# Altium integrated library Linear Technology PMIC-Switching Reg LTC1174-LTC3901.IntLib: 2647 symbols (part 55 of 310)
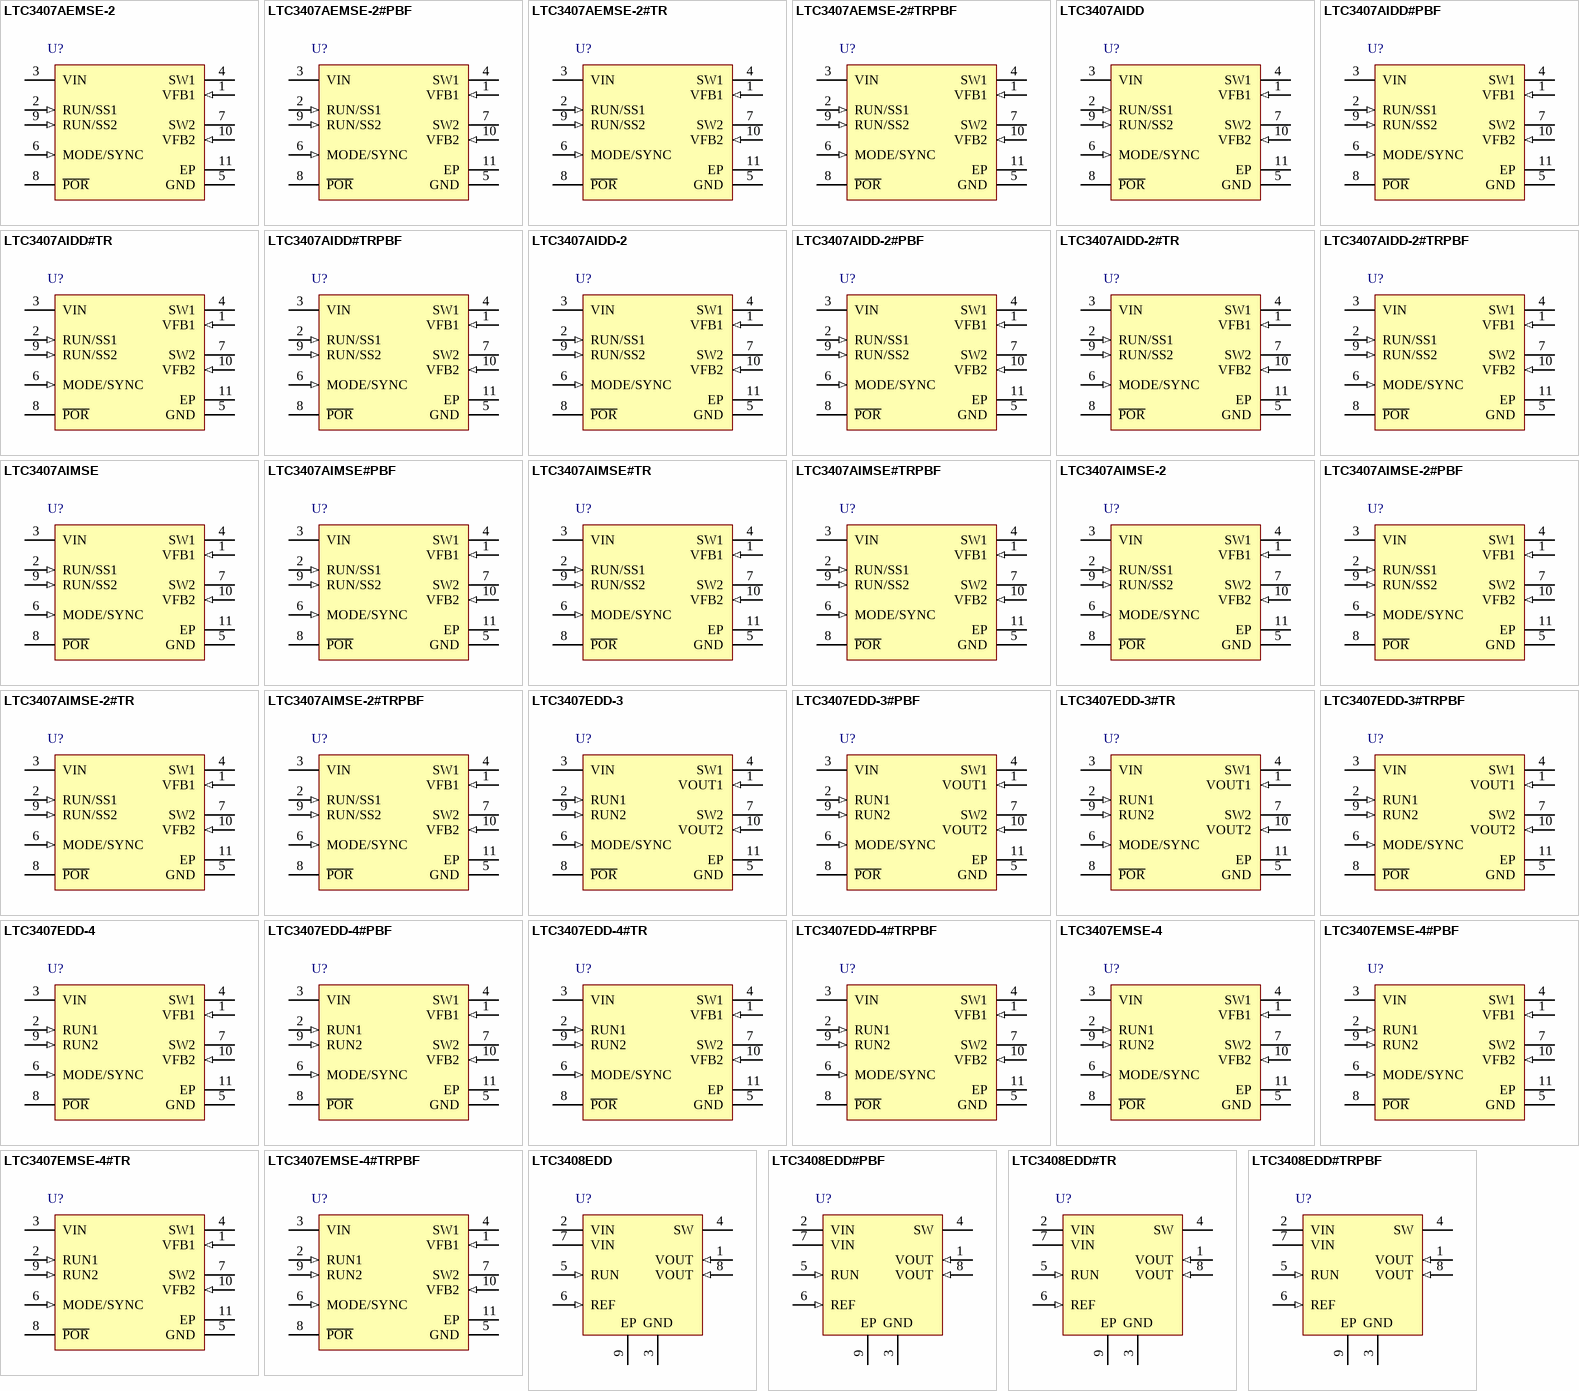
[diagram p148: symbols LTC3407AEMSE-2 to LTC3408EDD#TRPBF]

## LTC3407AIMSE-2
designator U?
Dual Synchronous 800 mA, 2.25 MHz Step-Down DC/DC Regulator, 10-pin SOP (MSE-10-EDP), -40 to 125 degC; Manufacturer: Linear Technology; PartNumber: LTC3407AIMSE-2; Number of Outputs: 2; PackageReference: MSE-10; PackageDescription: 10-Pin Plastic MSOP, Exposed Die Pad, Body 3 x 3 mm, Pitch 0.5 mm; Supplier 1: Newark; Supplier Part Number 1: 56M7592; RoHS: FALSE
footprint LT-MSE-10-EDP-2060x1830TP_N (SOP, 10-Leads, Body 3.1x3.1mm, Pitch 0.5mm, Thermal Pad 2.17x1.94mm, IPC Medium Density)
footprint LT-MSE-10-EDP-2060x1830TP_L (SOP, 10-Leads, Body 3.1x3.1mm, Pitch 0.5mm, Thermal Pad 2.17x1.94mm, IPC High Density)
footprint LT-MSE-10-EDP-2060x1830TP_M (SOP, 10-Leads, Body 3.1x3.1mm, Pitch 0.5mm, Thermal Pad 2.17x1.94mm, IPC Low Density)
pins: 1 VFB1 (in) "Output Feedback. Receives the feedback voltage from the external resistive divider across the output. Nominal voltage for this pin is 0.6V.", 2 RUN/SS1 (in) "Regulator 1 Enable and Soft-Start Input. Forcing this pin to VIN enables regulator 1, while forcing it to GND causes regulator 1 to shut down. Connect external RC-network with desired time-constant to enable softstart (See Datasheet)", 3 VIN (power) "Main Power Supply. Must be closely decoupled to GND.", 4 SW1 (power) "Regulator 1 Switch Node Connection to the Inductor. This pin swings from VIN to GND", 5 GND (power) "Main Ground. Connect to the (-) terminal of COUT, and (-) terminal of CIN.", 6 MODE/SYNC (in) "Combination Mode Selection and Oscillator Synchronization. This pin controls the operation of the device. When tied to VIN or GND, Burst Mode operation or pulse skipping mode is selected, respectively. Do not float this pin. (See Datasheet)", 7 SW2 (power) "Regulator 2 Switch Node Connection to the Inductor. This pin swings from VIN to GND.", 8 ~{POR} (oc) "Power-On Reset. This common-drain logic output is pulled to GND when the output voltage is not within +/-8.5% of regulation and goes high after 2^16 clock cycles when both channels are within regulation.", 9 RUN/SS2 (in) "Regulator 2 Enable and Soft-Start Input. Forcing this pin to VIN enables regulator 2, while forcing it to GND causes regulator 2 to shut down. Connect external RC-Network with desired time-constant to enable softstart (See Datasheet)", 10 VFB2 (in) "Output Feedback. Receives the feedback voltage from the external resistive divider across the output. Nominal voltage for this pin is 0.6V.", 11 EP (power) "Power Ground. Connect to the (-) terminal of COUT, and (-) terminal of CIN. Must be soldered to electrical ground on PCB."

## LTC3407AIMSE-2#PBF
designator U?
Dual Synchronous 800 mA, 2.25 MHz Step-Down DC/DC Regulator, 10-pin SOP (MSE-10-EDP), -40 to 125 degC, Pb-Free; Manufacturer: Linear Technology; PartNumber: LTC3407AIMSE-2#PBF; Number of Outputs: 2; PackageReference: MSE-10; PackageDescription: 10-Pin Plastic MSOP, Exposed Die Pad, Body 3 x 3 mm, Pitch 0.5 mm; Supplier 1: Digi-Key; Supplier Part Number 1: LTC3407AIMSE-2#PBF-ND; RoHS: TRUE
footprint LT-MSE-10-EDP-2060x1830TP_N (SOP, 10-Leads, Body 3.1x3.1mm, Pitch 0.5mm, Thermal Pad 2.17x1.94mm, IPC Medium Density)
footprint LT-MSE-10-EDP-2060x1830TP_L (SOP, 10-Leads, Body 3.1x3.1mm, Pitch 0.5mm, Thermal Pad 2.17x1.94mm, IPC High Density)
footprint LT-MSE-10-EDP-2060x1830TP_M (SOP, 10-Leads, Body 3.1x3.1mm, Pitch 0.5mm, Thermal Pad 2.17x1.94mm, IPC Low Density)
pins: 1 VFB1 (in) "Output Feedback. Receives the feedback voltage from the external resistive divider across the output. Nominal voltage for this pin is 0.6V.", 2 RUN/SS1 (in) "Regulator 1 Enable and Soft-Start Input. Forcing this pin to VIN enables regulator 1, while forcing it to GND causes regulator 1 to shut down. Connect external RC-network with desired time-constant to enable softstart (See Datasheet)", 3 VIN (power) "Main Power Supply. Must be closely decoupled to GND.", 4 SW1 (power) "Regulator 1 Switch Node Connection to the Inductor. This pin swings from VIN to GND", 5 GND (power) "Main Ground. Connect to the (-) terminal of COUT, and (-) terminal of CIN.", 6 MODE/SYNC (in) "Combination Mode Selection and Oscillator Synchronization. This pin controls the operation of the device. When tied to VIN or GND, Burst Mode operation or pulse skipping mode is selected, respectively. Do not float this pin. (See Datasheet)", 7 SW2 (power) "Regulator 2 Switch Node Connection to the Inductor. This pin swings from VIN to GND.", 8 ~{POR} (oc) "Power-On Reset. This common-drain logic output is pulled to GND when the output voltage is not within +/-8.5% of regulation and goes high after 2^16 clock cycles when both channels are within regulation.", 9 RUN/SS2 (in) "Regulator 2 Enable and Soft-Start Input. Forcing this pin to VIN enables regulator 2, while forcing it to GND causes regulator 2 to shut down. Connect external RC-Network with desired time-constant to enable softstart (See Datasheet)", 10 VFB2 (in) "Output Feedback. Receives the feedback voltage from the external resistive divider across the output. Nominal voltage for this pin is 0.6V.", 11 EP (power) "Power Ground. Connect to the (-) terminal of COUT, and (-) terminal of CIN. Must be soldered to electrical ground on PCB."

## LTC3407AIMSE-2#TR
designator U?
Dual Synchronous 800 mA, 2.25 MHz Step-Down DC/DC Regulator, 10-pin SOP (MSE-10-EDP), -40 to 125 degC, Tape and Reel; Manufacturer: Linear Technology; PartNumber: LTC3407AIMSE-2#TR; Number of Outputs: 2; PackageReference: MSE-10; PackageDescription: 10-Pin Plastic MSOP, Exposed Die Pad, Body 3 x 3 mm, Pitch 0.5 mm; RoHS: FALSE
footprint LT-MSE-10-EDP-2060x1830TP_N (SOP, 10-Leads, Body 3.1x3.1mm, Pitch 0.5mm, Thermal Pad 2.17x1.94mm, IPC Medium Density)
footprint LT-MSE-10-EDP-2060x1830TP_L (SOP, 10-Leads, Body 3.1x3.1mm, Pitch 0.5mm, Thermal Pad 2.17x1.94mm, IPC High Density)
footprint LT-MSE-10-EDP-2060x1830TP_M (SOP, 10-Leads, Body 3.1x3.1mm, Pitch 0.5mm, Thermal Pad 2.17x1.94mm, IPC Low Density)
pins: 1 VFB1 (in) "Output Feedback. Receives the feedback voltage from the external resistive divider across the output. Nominal voltage for this pin is 0.6V.", 2 RUN/SS1 (in) "Regulator 1 Enable and Soft-Start Input. Forcing this pin to VIN enables regulator 1, while forcing it to GND causes regulator 1 to shut down. Connect external RC-network with desired time-constant to enable softstart (See Datasheet)", 3 VIN (power) "Main Power Supply. Must be closely decoupled to GND.", 4 SW1 (power) "Regulator 1 Switch Node Connection to the Inductor. This pin swings from VIN to GND", 5 GND (power) "Main Ground. Connect to the (-) terminal of COUT, and (-) terminal of CIN.", 6 MODE/SYNC (in) "Combination Mode Selection and Oscillator Synchronization. This pin controls the operation of the device. When tied to VIN or GND, Burst Mode operation or pulse skipping mode is selected, respectively. Do not float this pin. (See Datasheet)", 7 SW2 (power) "Regulator 2 Switch Node Connection to the Inductor. This pin swings from VIN to GND.", 8 ~{POR} (oc) "Power-On Reset. This common-drain logic output is pulled to GND when the output voltage is not within +/-8.5% of regulation and goes high after 2^16 clock cycles when both channels are within regulation.", 9 RUN/SS2 (in) "Regulator 2 Enable and Soft-Start Input. Forcing this pin to VIN enables regulator 2, while forcing it to GND causes regulator 2 to shut down. Connect external RC-Network with desired time-constant to enable softstart (See Datasheet)", 10 VFB2 (in) "Output Feedback. Receives the feedback voltage from the external resistive divider across the output. Nominal voltage for this pin is 0.6V.", 11 EP (power) "Power Ground. Connect to the (-) terminal of COUT, and (-) terminal of CIN. Must be soldered to electrical ground on PCB."

## LTC3407AIMSE-2#TRPBF
designator U?
Dual Synchronous 800 mA, 2.25 MHz Step-Down DC/DC Regulator, 10-pin SOP (MSE-10-EDP), -40 to 125 degC, Pb-Free, Tape and Reel; Manufacturer: Linear Technology; PartNumber: LTC3407AIMSE-2#TRPBF; Number of Outputs: 2; PackageReference: MSE-10; PackageDescription: 10-Pin Plastic MSOP, Exposed Die Pad, Body 3 x 3 mm, Pitch 0.5 mm; Supplier 1: Digi-Key; Supplier Part Number 1: LTC3407AIMSE-2#TRPBF-ND; RoHS: TRUE
footprint LT-MSE-10-EDP-2060x1830TP_N (SOP, 10-Leads, Body 3.1x3.1mm, Pitch 0.5mm, Thermal Pad 2.17x1.94mm, IPC Medium Density)
footprint LT-MSE-10-EDP-2060x1830TP_L (SOP, 10-Leads, Body 3.1x3.1mm, Pitch 0.5mm, Thermal Pad 2.17x1.94mm, IPC High Density)
footprint LT-MSE-10-EDP-2060x1830TP_M (SOP, 10-Leads, Body 3.1x3.1mm, Pitch 0.5mm, Thermal Pad 2.17x1.94mm, IPC Low Density)
pins: 1 VFB1 (in) "Output Feedback. Receives the feedback voltage from the external resistive divider across the output. Nominal voltage for this pin is 0.6V.", 2 RUN/SS1 (in) "Regulator 1 Enable and Soft-Start Input. Forcing this pin to VIN enables regulator 1, while forcing it to GND causes regulator 1 to shut down. Connect external RC-network with desired time-constant to enable softstart (See Datasheet)", 3 VIN (power) "Main Power Supply. Must be closely decoupled to GND.", 4 SW1 (power) "Regulator 1 Switch Node Connection to the Inductor. This pin swings from VIN to GND", 5 GND (power) "Main Ground. Connect to the (-) terminal of COUT, and (-) terminal of CIN.", 6 MODE/SYNC (in) "Combination Mode Selection and Oscillator Synchronization. This pin controls the operation of the device. When tied to VIN or GND, Burst Mode operation or pulse skipping mode is selected, respectively. Do not float this pin. (See Datasheet)", 7 SW2 (power) "Regulator 2 Switch Node Connection to the Inductor. This pin swings from VIN to GND.", 8 ~{POR} (oc) "Power-On Reset. This common-drain logic output is pulled to GND when the output voltage is not within +/-8.5% of regulation and goes high after 2^16 clock cycles when both channels are within regulation.", 9 RUN/SS2 (in) "Regulator 2 Enable and Soft-Start Input. Forcing this pin to VIN enables regulator 2, while forcing it to GND causes regulator 2 to shut down. Connect external RC-Network with desired time-constant to enable softstart (See Datasheet)", 10 VFB2 (in) "Output Feedback. Receives the feedback voltage from the external resistive divider across the output. Nominal voltage for this pin is 0.6V.", 11 EP (power) "Power Ground. Connect to the (-) terminal of COUT, and (-) terminal of CIN. Must be soldered to electrical ground on PCB."

## LTC3407EDD-3
designator U?
Dual Synchronous 800 mA, 2.25 MHz Step-Down DC/DC Regulator, 10-pin SON (DD-10), -40 to 85 degC; Manufacturer: Linear Technology; PartNumber: LTC3407EDD-3; Number of Outputs: 2; PackageReference: DD-10; PackageDescription: 10-Pin Plastic DFN, Body 3 x 3 mm, Pitch 0.5 mm; RoHS: FALSE; Code_JEDEC: MO-229
footprint LT-DD-10_V (SON, 10-Leads, Body 3x3mm, Pitch 0.5mm, Thermal Pad 2.38x1.65mm)
pins: 1 VOUT1 (in) "Output Voltage Feedback Pin for Channel 1. An internal resistive divider divides the output voltage down for comparison to the internal reference voltage.", 2 RUN1 (in) "Regulator 1 Enable. Forcing this pin to VIN enables regulator 1, while forcing it to GND causes regulator 1 to shut down. Do not float this pin.", 3 VIN (power) "Main Power Supply. Must be closely decoupled to GND.", 4 SW1 (power) "Regulator 1 Switch Node Connection to the Inductor. This pin swings from VIN to GND", 5 GND (power) "Ground. This pin is not connected internally. Connect to PCB ground for shielding", 6 MODE/SYNC (in) "Combination Mode Selection and Oscillator Synchronization. This pin controls the operation of the device. When tied to VIN or GND, Burst Mode operation or pulse-skipping mode is selected, respectively. The oscillation (See Datasheet)", 7 SW2 (power) "Regulator 2 Switch Node Connection to the Inductor. This pin swings from VIN to GND.", 8 ~{POR} (oc) "Power-On Reset . This common-drain logic output is pulled to GND when the output voltage falls below -8.5% of regulation and goes high after 117ms when both channels are within regulation.", 9 RUN2 (in) "Regulator 2 Enable. Forcing this pin to VIN enables regulator 2, while forcing it to GND causes regulator 2 to shut down. Do not float this pin", 10 VOUT2 (in) "Output Voltage Feedback Pin for Channel 2. An internal resistive divider divides the output voltage down for comparison to the internal reference voltage.", 11 EP (power) "Power Ground. Connect to the (-) terminal of COUT, and (-) terminal of CIN. Must be connected to electrical ground on PCB."

## LTC3407EDD-3#PBF
designator U?
Dual Synchronous 800 mA, 2.25 MHz Step-Down DC/DC Regulator, 10-pin SON (DD-10), -40 to 85 degC, Pb-Free; Manufacturer: Linear Technology; PartNumber: LTC3407EDD-3#PBF; Number of Outputs: 2; PackageReference: DD-10; PackageDescription: 10-Pin Plastic DFN, Body 3 x 3 mm, Pitch 0.5 mm; Supplier 1: Digi-Key; Supplier Part Number 1: LTC3407EDD-3#PBF-ND; RoHS: TRUE; Code_JEDEC: MO-229
footprint LT-DD-10_V (SON, 10-Leads, Body 3x3mm, Pitch 0.5mm, Thermal Pad 2.38x1.65mm)
pins: 1 VOUT1 (in) "Output Voltage Feedback Pin for Channel 1. An internal resistive divider divides the output voltage down for comparison to the internal reference voltage.", 2 RUN1 (in) "Regulator 1 Enable. Forcing this pin to VIN enables regulator 1, while forcing it to GND causes regulator 1 to shut down. Do not float this pin.", 3 VIN (power) "Main Power Supply. Must be closely decoupled to GND.", 4 SW1 (power) "Regulator 1 Switch Node Connection to the Inductor. This pin swings from VIN to GND", 5 GND (power) "Ground. This pin is not connected internally. Connect to PCB ground for shielding", 6 MODE/SYNC (in) "Combination Mode Selection and Oscillator Synchronization. This pin controls the operation of the device. When tied to VIN or GND, Burst Mode operation or pulse-skipping mode is selected, respectively. The oscillation (See Datasheet)", 7 SW2 (power) "Regulator 2 Switch Node Connection to the Inductor. This pin swings from VIN to GND.", 8 ~{POR} (oc) "Power-On Reset . This common-drain logic output is pulled to GND when the output voltage falls below -8.5% of regulation and goes high after 117ms when both channels are within regulation.", 9 RUN2 (in) "Regulator 2 Enable. Forcing this pin to VIN enables regulator 2, while forcing it to GND causes regulator 2 to shut down. Do not float this pin", 10 VOUT2 (in) "Output Voltage Feedback Pin for Channel 2. An internal resistive divider divides the output voltage down for comparison to the internal reference voltage.", 11 EP (power) "Power Ground. Connect to the (-) terminal of COUT, and (-) terminal of CIN. Must be connected to electrical ground on PCB."

## LTC3407EDD-3#TR
designator U?
Dual Synchronous 800 mA, 2.25 MHz Step-Down DC/DC Regulator, 10-pin SON (DD-10), -40 to 85 degC, Tape and Reel; Manufacturer: Linear Technology; PartNumber: LTC3407EDD-3#TR; Number of Outputs: 2; PackageReference: DD-10; PackageDescription: 10-Pin Plastic DFN, Body 3 x 3 mm, Pitch 0.5 mm; RoHS: FALSE; Code_JEDEC: MO-229
footprint LT-DD-10_V (SON, 10-Leads, Body 3x3mm, Pitch 0.5mm, Thermal Pad 2.38x1.65mm)
pins: 1 VOUT1 (in) "Output Voltage Feedback Pin for Channel 1. An internal resistive divider divides the output voltage down for comparison to the internal reference voltage.", 2 RUN1 (in) "Regulator 1 Enable. Forcing this pin to VIN enables regulator 1, while forcing it to GND causes regulator 1 to shut down. Do not float this pin.", 3 VIN (power) "Main Power Supply. Must be closely decoupled to GND.", 4 SW1 (power) "Regulator 1 Switch Node Connection to the Inductor. This pin swings from VIN to GND", 5 GND (power) "Ground. This pin is not connected internally. Connect to PCB ground for shielding", 6 MODE/SYNC (in) "Combination Mode Selection and Oscillator Synchronization. This pin controls the operation of the device. When tied to VIN or GND, Burst Mode operation or pulse-skipping mode is selected, respectively. The oscillation (See Datasheet)", 7 SW2 (power) "Regulator 2 Switch Node Connection to the Inductor. This pin swings from VIN to GND.", 8 ~{POR} (oc) "Power-On Reset . This common-drain logic output is pulled to GND when the output voltage falls below -8.5% of regulation and goes high after 117ms when both channels are within regulation.", 9 RUN2 (in) "Regulator 2 Enable. Forcing this pin to VIN enables regulator 2, while forcing it to GND causes regulator 2 to shut down. Do not float this pin", 10 VOUT2 (in) "Output Voltage Feedback Pin for Channel 2. An internal resistive divider divides the output voltage down for comparison to the internal reference voltage.", 11 EP (power) "Power Ground. Connect to the (-) terminal of COUT, and (-) terminal of CIN. Must be connected to electrical ground on PCB."

## LTC3407EDD-3#TRPBF
designator U?
Dual Synchronous 800 mA, 2.25 MHz Step-Down DC/DC Regulator, 10-pin SON (DD-10), -40 to 85 degC, Pb-Free, Tape and Reel; Manufacturer: Linear Technology; PartNumber: LTC3407EDD-3#TRPBF; Number of Outputs: 2; PackageReference: DD-10; PackageDescription: 10-Pin Plastic DFN, Body 3 x 3 mm, Pitch 0.5 mm; Supplier 1: Digi-Key; Supplier Part Number 1: LTC3407EDD-3#TRPBF-ND; RoHS: TRUE; Code_JEDEC: MO-229
footprint LT-DD-10_V (SON, 10-Leads, Body 3x3mm, Pitch 0.5mm, Thermal Pad 2.38x1.65mm)
pins: 1 VOUT1 (in) "Output Voltage Feedback Pin for Channel 1. An internal resistive divider divides the output voltage down for comparison to the internal reference voltage.", 2 RUN1 (in) "Regulator 1 Enable. Forcing this pin to VIN enables regulator 1, while forcing it to GND causes regulator 1 to shut down. Do not float this pin.", 3 VIN (power) "Main Power Supply. Must be closely decoupled to GND.", 4 SW1 (power) "Regulator 1 Switch Node Connection to the Inductor. This pin swings from VIN to GND", 5 GND (power) "Ground. This pin is not connected internally. Connect to PCB ground for shielding", 6 MODE/SYNC (in) "Combination Mode Selection and Oscillator Synchronization. This pin controls the operation of the device. When tied to VIN or GND, Burst Mode operation or pulse-skipping mode is selected, respectively. The oscillation (See Datasheet)", 7 SW2 (power) "Regulator 2 Switch Node Connection to the Inductor. This pin swings from VIN to GND.", 8 ~{POR} (oc) "Power-On Reset . This common-drain logic output is pulled to GND when the output voltage falls below -8.5% of regulation and goes high after 117ms when both channels are within regulation.", 9 RUN2 (in) "Regulator 2 Enable. Forcing this pin to VIN enables regulator 2, while forcing it to GND causes regulator 2 to shut down. Do not float this pin", 10 VOUT2 (in) "Output Voltage Feedback Pin for Channel 2. An internal resistive divider divides the output voltage down for comparison to the internal reference voltage.", 11 EP (power) "Power Ground. Connect to the (-) terminal of COUT, and (-) terminal of CIN. Must be connected to electrical ground on PCB."

## LTC3407EDD-4
designator U?
Dual Synchronous 800 mA, 2.25 MHz Step-Down DC/DC Regulator, 10-pin SON (DD-10), -40 to 85 degC; Manufacturer: Linear Technology; PartNumber: LTC3407EDD-4; Number of Outputs: 2; PackageReference: DD-10; PackageDescription: 10-Pin Plastic DFN, Body 3 x 3 mm, Pitch 0.5 mm; RoHS: FALSE; Code_JEDEC: MO-229
footprint LT-DD-10_V (SON, 10-Leads, Body 3x3mm, Pitch 0.5mm, Thermal Pad 2.38x1.65mm)
pins: 1 VFB1 (in) "Output Feedback. Receives the feedback voltage from the external resistive divider across the output. Nominal voltage for this pin is 0.6V.", 2 RUN1 (in) "Regulator 1 Enable. Forcing this pin to VIN enables regulator 1, while forcing it to GND causes regulator 1 to shut down. This pin must be driven; do not float.", 3 VIN (power) "Main Power Supply. Must be closely decoupled to GND.", 4 SW1 (power) "Regulator 1 Switch Node Connection to the Inductor. This pin swings from VIN to GND.", 5 GND (power) "Ground. This pin is not connected internally. Connect to PCB ground for shielding", 6 MODE/SYNC (in) "Combination Mode Selection and Oscillator Synchronization. This pin controls the operation of the device. When tied to VIN or GND, Burst Mode operation or pulse-skipping mode is selected, respectively. Do not float this pin. (See Datasheet)", 7 SW2 (power) "Regulator 2 Switch Node Connection to the Inductor. This pin swings from VIN to GND.", 8 ~{POR} (oc) "Power-On Reset . This common-drain logic output is pulled to GND when the output voltage is not within +/-8.5% of regulation and goes high after 29ms when both channels are within regulation.", 9 RUN2 (in) "Regulator 2 Enable. Forcing this pin to VIN enables regulator 2, while forcing it to GND causes regulator 2 to shut down. This pin must be driven; do not float.", 10 VFB2 (in) "Output Feedback. Receives the feedback voltage from the external resistive divider across the output. Nominal voltage for this pin is 0.6V.", 11 EP (power) "Power Ground. Connect to the (-) terminal of COUT, and (-) terminal of CIN. Must be connected to electrical ground on PCB."

## LTC3407EDD-4#PBF
designator U?
Dual Synchronous 800 mA, 2.25 MHz Step-Down DC/DC Regulator, 10-pin SON (DD-10), -40 to 85 degC, Pb-Free; Manufacturer: Linear Technology; PartNumber: LTC3407EDD-4#PBF; Number of Outputs: 2; PackageReference: DD-10; PackageDescription: 10-Pin Plastic DFN, Body 3 x 3 mm, Pitch 0.5 mm; Supplier 1: Digi-Key; Supplier Part Number 1: LTC3407EDD-4#PBF-ND; RoHS: TRUE; Code_JEDEC: MO-229
footprint LT-DD-10_V (SON, 10-Leads, Body 3x3mm, Pitch 0.5mm, Thermal Pad 2.38x1.65mm)
pins: 1 VFB1 (in) "Output Feedback. Receives the feedback voltage from the external resistive divider across the output. Nominal voltage for this pin is 0.6V.", 2 RUN1 (in) "Regulator 1 Enable. Forcing this pin to VIN enables regulator 1, while forcing it to GND causes regulator 1 to shut down. This pin must be driven; do not float.", 3 VIN (power) "Main Power Supply. Must be closely decoupled to GND.", 4 SW1 (power) "Regulator 1 Switch Node Connection to the Inductor. This pin swings from VIN to GND.", 5 GND (power) "Ground. This pin is not connected internally. Connect to PCB ground for shielding", 6 MODE/SYNC (in) "Combination Mode Selection and Oscillator Synchronization. This pin controls the operation of the device. When tied to VIN or GND, Burst Mode operation or pulse-skipping mode is selected, respectively. Do not float this pin. (See Datasheet)", 7 SW2 (power) "Regulator 2 Switch Node Connection to the Inductor. This pin swings from VIN to GND.", 8 ~{POR} (oc) "Power-On Reset . This common-drain logic output is pulled to GND when the output voltage is not within +/-8.5% of regulation and goes high after 29ms when both channels are within regulation.", 9 RUN2 (in) "Regulator 2 Enable. Forcing this pin to VIN enables regulator 2, while forcing it to GND causes regulator 2 to shut down. This pin must be driven; do not float.", 10 VFB2 (in) "Output Feedback. Receives the feedback voltage from the external resistive divider across the output. Nominal voltage for this pin is 0.6V.", 11 EP (power) "Power Ground. Connect to the (-) terminal of COUT, and (-) terminal of CIN. Must be connected to electrical ground on PCB."

## LTC3407EDD-4#TR
designator U?
Dual Synchronous 800 mA, 2.25 MHz Step-Down DC/DC Regulator, 10-pin SON (DD-10), -40 to 85 degC, Tape and Reel; Manufacturer: Linear Technology; PartNumber: LTC3407EDD-4#TR; Number of Outputs: 2; PackageReference: DD-10; PackageDescription: 10-Pin Plastic DFN, Body 3 x 3 mm, Pitch 0.5 mm; RoHS: FALSE; Code_JEDEC: MO-229
footprint LT-DD-10_V (SON, 10-Leads, Body 3x3mm, Pitch 0.5mm, Thermal Pad 2.38x1.65mm)
pins: 1 VFB1 (in) "Output Feedback. Receives the feedback voltage from the external resistive divider across the output. Nominal voltage for this pin is 0.6V.", 2 RUN1 (in) "Regulator 1 Enable. Forcing this pin to VIN enables regulator 1, while forcing it to GND causes regulator 1 to shut down. This pin must be driven; do not float.", 3 VIN (power) "Main Power Supply. Must be closely decoupled to GND.", 4 SW1 (power) "Regulator 1 Switch Node Connection to the Inductor. This pin swings from VIN to GND.", 5 GND (power) "Ground. This pin is not connected internally. Connect to PCB ground for shielding", 6 MODE/SYNC (in) "Combination Mode Selection and Oscillator Synchronization. This pin controls the operation of the device. When tied to VIN or GND, Burst Mode operation or pulse-skipping mode is selected, respectively. Do not float this pin. (See Datasheet)", 7 SW2 (power) "Regulator 2 Switch Node Connection to the Inductor. This pin swings from VIN to GND.", 8 ~{POR} (oc) "Power-On Reset . This common-drain logic output is pulled to GND when the output voltage is not within +/-8.5% of regulation and goes high after 29ms when both channels are within regulation.", 9 RUN2 (in) "Regulator 2 Enable. Forcing this pin to VIN enables regulator 2, while forcing it to GND causes regulator 2 to shut down. This pin must be driven; do not float.", 10 VFB2 (in) "Output Feedback. Receives the feedback voltage from the external resistive divider across the output. Nominal voltage for this pin is 0.6V.", 11 EP (power) "Power Ground. Connect to the (-) terminal of COUT, and (-) terminal of CIN. Must be connected to electrical ground on PCB."

## LTC3407EDD-4#TRPBF
designator U?
Dual Synchronous 800 mA, 2.25 MHz Step-Down DC/DC Regulator, 10-pin SON (DD-10), -40 to 85 degC, Pb-Free, Tape and Reel; Manufacturer: Linear Technology; PartNumber: LTC3407EDD-4#TRPBF; Number of Outputs: 2; PackageReference: DD-10; PackageDescription: 10-Pin Plastic DFN, Body 3 x 3 mm, Pitch 0.5 mm; Supplier 1: Digi-Key; Supplier Part Number 1: LTC3407EDD-4#TRPBF-ND; RoHS: TRUE; Code_JEDEC: MO-229
footprint LT-DD-10_V (SON, 10-Leads, Body 3x3mm, Pitch 0.5mm, Thermal Pad 2.38x1.65mm)
pins: 1 VFB1 (in) "Output Feedback. Receives the feedback voltage from the external resistive divider across the output. Nominal voltage for this pin is 0.6V.", 2 RUN1 (in) "Regulator 1 Enable. Forcing this pin to VIN enables regulator 1, while forcing it to GND causes regulator 1 to shut down. This pin must be driven; do not float.", 3 VIN (power) "Main Power Supply. Must be closely decoupled to GND.", 4 SW1 (power) "Regulator 1 Switch Node Connection to the Inductor. This pin swings from VIN to GND.", 5 GND (power) "Ground. This pin is not connected internally. Connect to PCB ground for shielding", 6 MODE/SYNC (in) "Combination Mode Selection and Oscillator Synchronization. This pin controls the operation of the device. When tied to VIN or GND, Burst Mode operation or pulse-skipping mode is selected, respectively. Do not float this pin. (See Datasheet)", 7 SW2 (power) "Regulator 2 Switch Node Connection to the Inductor. This pin swings from VIN to GND.", 8 ~{POR} (oc) "Power-On Reset . This common-drain logic output is pulled to GND when the output voltage is not within +/-8.5% of regulation and goes high after 29ms when both channels are within regulation.", 9 RUN2 (in) "Regulator 2 Enable. Forcing this pin to VIN enables regulator 2, while forcing it to GND causes regulator 2 to shut down. This pin must be driven; do not float.", 10 VFB2 (in) "Output Feedback. Receives the feedback voltage from the external resistive divider across the output. Nominal voltage for this pin is 0.6V.", 11 EP (power) "Power Ground. Connect to the (-) terminal of COUT, and (-) terminal of CIN. Must be connected to electrical ground on PCB."

## LTC3407EMSE-4
designator U?
Dual Synchronous 800 mA, 2.25 MHz Step-Down DC/DC Regulator, 10-pin SOP (MSE-10-EDP), -40 to 85 degC; Manufacturer: Linear Technology; PartNumber: LTC3407EMSE-4; Number of Outputs: 2; PackageReference: MSE-10; PackageDescription: 10-Pin Plastic MSOP, Exposed Die Pad, Body 3 x 3 mm, Pitch 0.5 mm; RoHS: FALSE
footprint LT-MSE-10-EDP-2060x1830TP_N (SOP, 10-Leads, Body 3.1x3.1mm, Pitch 0.5mm, Thermal Pad 2.17x1.94mm, IPC Medium Density)
footprint LT-MSE-10-EDP-2060x1830TP_L (SOP, 10-Leads, Body 3.1x3.1mm, Pitch 0.5mm, Thermal Pad 2.17x1.94mm, IPC High Density)
footprint LT-MSE-10-EDP-2060x1830TP_M (SOP, 10-Leads, Body 3.1x3.1mm, Pitch 0.5mm, Thermal Pad 2.17x1.94mm, IPC Low Density)
pins: 1 VFB1 (in) "Output Feedback. Receives the feedback voltage from the external resistive divider across the output. Nominal voltage for this pin is 0.6V.", 2 RUN1 (in) "Regulator 1 Enable. Forcing this pin to VIN enables regulator 1, while forcing it to GND causes regulator 1 to shut down. This pin must be driven; do not float.", 3 VIN (power) "Main Power Supply. Must be closely decoupled to GND.", 4 SW1 (power) "Regulator 1 Switch Node Connection to the Inductor. This pin swings from VIN to GND.", 5 GND (power) "Ground. This pin is not connected internally. Connect to PCB ground for shielding", 6 MODE/SYNC (in) "Combination Mode Selection and Oscillator Synchronization. This pin controls the operation of the device. When tied to VIN or GND, Burst Mode operation or pulse-skipping mode is selected, respectively. Do not float this pin. (See Datasheet)", 7 SW2 (power) "Regulator 2 Switch Node Connection to the Inductor. This pin swings from VIN to GND.", 8 ~{POR} (oc) "Power-On Reset . This common-drain logic output is pulled to GND when the output voltage is not within +/-8.5% of regulation and goes high after 29ms when both channels are within regulation.", 9 RUN2 (in) "Regulator 2 Enable. Forcing this pin to VIN enables regulator 2, while forcing it to GND causes regulator 2 to shut down. This pin must be driven; do not float.", 10 VFB2 (in) "Output Feedback. Receives the feedback voltage from the external resistive divider across the output. Nominal voltage for this pin is 0.6V.", 11 EP (power) "Power Ground. Connect to the (-) terminal of COUT, and (-) terminal of CIN. Must be connected to electrical ground on PCB."

## LTC3407EMSE-4#PBF
designator U?
Dual Synchronous 800 mA, 2.25 MHz Step-Down DC/DC Regulator, 10-pin SOP (MSE-10-EDP), -40 to 85 degC, Pb-Free; Manufacturer: Linear Technology; PartNumber: LTC3407EMSE-4#PBF; Number of Outputs: 2; PackageReference: MSE-10; PackageDescription: 10-Pin Plastic MSOP, Exposed Die Pad, Body 3 x 3 mm, Pitch 0.5 mm; Supplier 1: Digi-Key; Supplier Part Number 1: LTC3407EMSE-4#PBF-ND; RoHS: TRUE
footprint LT-MSE-10-EDP-2060x1830TP_N (SOP, 10-Leads, Body 3.1x3.1mm, Pitch 0.5mm, Thermal Pad 2.17x1.94mm, IPC Medium Density)
footprint LT-MSE-10-EDP-2060x1830TP_L (SOP, 10-Leads, Body 3.1x3.1mm, Pitch 0.5mm, Thermal Pad 2.17x1.94mm, IPC High Density)
footprint LT-MSE-10-EDP-2060x1830TP_M (SOP, 10-Leads, Body 3.1x3.1mm, Pitch 0.5mm, Thermal Pad 2.17x1.94mm, IPC Low Density)
pins: 1 VFB1 (in) "Output Feedback. Receives the feedback voltage from the external resistive divider across the output. Nominal voltage for this pin is 0.6V.", 2 RUN1 (in) "Regulator 1 Enable. Forcing this pin to VIN enables regulator 1, while forcing it to GND causes regulator 1 to shut down. This pin must be driven; do not float.", 3 VIN (power) "Main Power Supply. Must be closely decoupled to GND.", 4 SW1 (power) "Regulator 1 Switch Node Connection to the Inductor. This pin swings from VIN to GND.", 5 GND (power) "Ground. This pin is not connected internally. Connect to PCB ground for shielding", 6 MODE/SYNC (in) "Combination Mode Selection and Oscillator Synchronization. This pin controls the operation of the device. When tied to VIN or GND, Burst Mode operation or pulse-skipping mode is selected, respectively. Do not float this pin. (See Datasheet)", 7 SW2 (power) "Regulator 2 Switch Node Connection to the Inductor. This pin swings from VIN to GND.", 8 ~{POR} (oc) "Power-On Reset . This common-drain logic output is pulled to GND when the output voltage is not within +/-8.5% of regulation and goes high after 29ms when both channels are within regulation.", 9 RUN2 (in) "Regulator 2 Enable. Forcing this pin to VIN enables regulator 2, while forcing it to GND causes regulator 2 to shut down. This pin must be driven; do not float.", 10 VFB2 (in) "Output Feedback. Receives the feedback voltage from the external resistive divider across the output. Nominal voltage for this pin is 0.6V.", 11 EP (power) "Power Ground. Connect to the (-) terminal of COUT, and (-) terminal of CIN. Must be connected to electrical ground on PCB."

## LTC3407EMSE-4#TR
designator U?
Dual Synchronous 800 mA, 2.25 MHz Step-Down DC/DC Regulator, 10-pin SOP (MSE-10-EDP), -40 to 85 degC, Tape and Reel; Manufacturer: Linear Technology; PartNumber: LTC3407EMSE-4#TR; Number of Outputs: 2; PackageReference: MSE-10; PackageDescription: 10-Pin Plastic MSOP, Exposed Die Pad, Body 3 x 3 mm, Pitch 0.5 mm; RoHS: FALSE
footprint LT-MSE-10-EDP-2060x1830TP_N (SOP, 10-Leads, Body 3.1x3.1mm, Pitch 0.5mm, Thermal Pad 2.17x1.94mm, IPC Medium Density)
footprint LT-MSE-10-EDP-2060x1830TP_L (SOP, 10-Leads, Body 3.1x3.1mm, Pitch 0.5mm, Thermal Pad 2.17x1.94mm, IPC High Density)
footprint LT-MSE-10-EDP-2060x1830TP_M (SOP, 10-Leads, Body 3.1x3.1mm, Pitch 0.5mm, Thermal Pad 2.17x1.94mm, IPC Low Density)
pins: 1 VFB1 (in) "Output Feedback. Receives the feedback voltage from the external resistive divider across the output. Nominal voltage for this pin is 0.6V.", 2 RUN1 (in) "Regulator 1 Enable. Forcing this pin to VIN enables regulator 1, while forcing it to GND causes regulator 1 to shut down. This pin must be driven; do not float.", 3 VIN (power) "Main Power Supply. Must be closely decoupled to GND.", 4 SW1 (power) "Regulator 1 Switch Node Connection to the Inductor. This pin swings from VIN to GND.", 5 GND (power) "Ground. This pin is not connected internally. Connect to PCB ground for shielding", 6 MODE/SYNC (in) "Combination Mode Selection and Oscillator Synchronization. This pin controls the operation of the device. When tied to VIN or GND, Burst Mode operation or pulse-skipping mode is selected, respectively. Do not float this pin. (See Datasheet)", 7 SW2 (power) "Regulator 2 Switch Node Connection to the Inductor. This pin swings from VIN to GND.", 8 ~{POR} (oc) "Power-On Reset . This common-drain logic output is pulled to GND when the output voltage is not within +/-8.5% of regulation and goes high after 29ms when both channels are within regulation.", 9 RUN2 (in) "Regulator 2 Enable. Forcing this pin to VIN enables regulator 2, while forcing it to GND causes regulator 2 to shut down. This pin must be driven; do not float.", 10 VFB2 (in) "Output Feedback. Receives the feedback voltage from the external resistive divider across the output. Nominal voltage for this pin is 0.6V.", 11 EP (power) "Power Ground. Connect to the (-) terminal of COUT, and (-) terminal of CIN. Must be connected to electrical ground on PCB."

## LTC3407EMSE-4#TRPBF
designator U?
Dual Synchronous 800 mA, 2.25 MHz Step-Down DC/DC Regulator, 10-pin SOP (MSE-10-EDP), -40 to 85 degC, Pb-Free, Tape and Reel; Manufacturer: Linear Technology; PartNumber: LTC3407EMSE-4#TRPBF; Number of Outputs: 2; PackageReference: MSE-10; PackageDescription: 10-Pin Plastic MSOP, Exposed Die Pad, Body 3 x 3 mm, Pitch 0.5 mm; Supplier 1: Digi-Key; Supplier Part Number 1: LTC3407EMSE-4#TRPBF-ND; RoHS: TRUE
footprint LT-MSE-10-EDP-2060x1830TP_N (SOP, 10-Leads, Body 3.1x3.1mm, Pitch 0.5mm, Thermal Pad 2.17x1.94mm, IPC Medium Density)
footprint LT-MSE-10-EDP-2060x1830TP_L (SOP, 10-Leads, Body 3.1x3.1mm, Pitch 0.5mm, Thermal Pad 2.17x1.94mm, IPC High Density)
footprint LT-MSE-10-EDP-2060x1830TP_M (SOP, 10-Leads, Body 3.1x3.1mm, Pitch 0.5mm, Thermal Pad 2.17x1.94mm, IPC Low Density)
pins: 1 VFB1 (in) "Output Feedback. Receives the feedback voltage from the external resistive divider across the output. Nominal voltage for this pin is 0.6V.", 2 RUN1 (in) "Regulator 1 Enable. Forcing this pin to VIN enables regulator 1, while forcing it to GND causes regulator 1 to shut down. This pin must be driven; do not float.", 3 VIN (power) "Main Power Supply. Must be closely decoupled to GND.", 4 SW1 (power) "Regulator 1 Switch Node Connection to the Inductor. This pin swings from VIN to GND.", 5 GND (power) "Ground. This pin is not connected internally. Connect to PCB ground for shielding", 6 MODE/SYNC (in) "Combination Mode Selection and Oscillator Synchronization. This pin controls the operation of the device. When tied to VIN or GND, Burst Mode operation or pulse-skipping mode is selected, respectively. Do not float this pin. (See Datasheet)", 7 SW2 (power) "Regulator 2 Switch Node Connection to the Inductor. This pin swings from VIN to GND.", 8 ~{POR} (oc) "Power-On Reset . This common-drain logic output is pulled to GND when the output voltage is not within +/-8.5% of regulation and goes high after 29ms when both channels are within regulation.", 9 RUN2 (in) "Regulator 2 Enable. Forcing this pin to VIN enables regulator 2, while forcing it to GND causes regulator 2 to shut down. This pin must be driven; do not float.", 10 VFB2 (in) "Output Feedback. Receives the feedback voltage from the external resistive divider across the output. Nominal voltage for this pin is 0.6V.", 11 EP (power) "Power Ground. Connect to the (-) terminal of COUT, and (-) terminal of CIN. Must be connected to electrical ground on PCB."

## LTC3408EDD
designator U?
1.5 MHz, 600 mA Synchronous Step-Down Regulator with Bypass Transistor, 8-pin SON (DD-8), -40 to 85 degC; Manufacturer: Linear Technology; PartNumber: LTC3408EDD; Number of Outputs: 1; PackageReference: DD-8; PackageDescription: 8-Pin Plastic DFN, Body 3 x 3 mm, Pitch 0.5 mm; Supplier 1: Digi-Key; Supplier Part Number 1: LTC3408EDD-ND; RoHS: FALSE; Code_JEDEC: MO-229
footprint LT-DD-8_V (SON, 8-Leads, Body 3x3mm, Pitch 0.5mm, Thermal Pad 1.65x2.38 mm)
pins: 1 VOUT (in) "Output Voltage Feedback Pin. An internal resistive divider divides the output voltage down by 3 for comparison to the external reference voltage. The drain of the P-channel bypass MOSFET is connected to this pin.", 2 VIN (power) "Main Supply Pin. Must be closely decoupled to GND, Pin 3, with a 10uF or greater ceramic capacitor.", 3 GND (power) "Ground Pin.", 4 SW (power) "Switch Node Connection to Inductor. This pin connects to the drains of the internal main and synchronous power MOSFET switches.", 5 RUN (in) "Run Control Input. Forcing this pin above 1.5V enables the part. Forcing this pin below 0.3V shuts down the device. In shutdown, all functions are disabled drawing <1uA supply current. Do not leave RUN floating.", 6 REF (in) "External Reference Input. Controls the output voltage to 3x the applied voltage at REF. Also turns on the bypass MOSFET when VREF > 1.2V.", 7 VIN (power) "Main Supply Pin. Must be closely decoupled to GND, Pin 3, with a 10uF or greater ceramic capacitor.", 8 VOUT (in) "Output Voltage Feedback Pin. An internal resistive divider divides the output voltage down by 3 for comparison to the external reference voltage. The drain of the P-channel bypass MOSFET is connected to this pin.", 9 EP (power) "Connect to GND, Pin 3."

## LTC3408EDD#PBF
designator U?
1.5 MHz, 600 mA Synchronous Step-Down Regulator with Bypass Transistor, 8-pin SON (DD-8), -40 to 85 degC, Pb-Free; Manufacturer: Linear Technology; PartNumber: LTC3408EDD#PBF; Number of Outputs: 1; PackageReference: DD-8; PackageDescription: 8-Pin Plastic DFN, Body 3 x 3 mm, Pitch 0.5 mm; Supplier 1: Digi-Key; Supplier Part Number 1: LTC3408EDD#PBF-ND; RoHS: TRUE; Code_JEDEC: MO-229
footprint LT-DD-8_V (SON, 8-Leads, Body 3x3mm, Pitch 0.5mm, Thermal Pad 1.65x2.38 mm)
pins: 1 VOUT (in) "Output Voltage Feedback Pin. An internal resistive divider divides the output voltage down by 3 for comparison to the external reference voltage. The drain of the P-channel bypass MOSFET is connected to this pin.", 2 VIN (power) "Main Supply Pin. Must be closely decoupled to GND, Pin 3, with a 10uF or greater ceramic capacitor.", 3 GND (power) "Ground Pin.", 4 SW (power) "Switch Node Connection to Inductor. This pin connects to the drains of the internal main and synchronous power MOSFET switches.", 5 RUN (in) "Run Control Input. Forcing this pin above 1.5V enables the part. Forcing this pin below 0.3V shuts down the device. In shutdown, all functions are disabled drawing <1uA supply current. Do not leave RUN floating.", 6 REF (in) "External Reference Input. Controls the output voltage to 3x the applied voltage at REF. Also turns on the bypass MOSFET when VREF > 1.2V.", 7 VIN (power) "Main Supply Pin. Must be closely decoupled to GND, Pin 3, with a 10uF or greater ceramic capacitor.", 8 VOUT (in) "Output Voltage Feedback Pin. An internal resistive divider divides the output voltage down by 3 for comparison to the external reference voltage. The drain of the P-channel bypass MOSFET is connected to this pin.", 9 EP (power) "Connect to GND, Pin 3."

## LTC3408EDD#TR
designator U?
1.5 MHz, 600 mA Synchronous Step-Down Regulator with Bypass Transistor, 8-pin SON (DD-8), -40 to 85 degC, Tape and Reel; Manufacturer: Linear Technology; PartNumber: LTC3408EDD#TR; Number of Outputs: 1; PackageReference: DD-8; PackageDescription: 8-Pin Plastic DFN, Body 3 x 3 mm, Pitch 0.5 mm; Supplier 1: Digi-Key; Supplier Part Number 1: LTC3408EDD#TR-ND; RoHS: FALSE; Code_JEDEC: MO-229
footprint LT-DD-8_V (SON, 8-Leads, Body 3x3mm, Pitch 0.5mm, Thermal Pad 1.65x2.38 mm)
pins: 1 VOUT (in) "Output Voltage Feedback Pin. An internal resistive divider divides the output voltage down by 3 for comparison to the external reference voltage. The drain of the P-channel bypass MOSFET is connected to this pin.", 2 VIN (power) "Main Supply Pin. Must be closely decoupled to GND, Pin 3, with a 10uF or greater ceramic capacitor.", 3 GND (power) "Ground Pin.", 4 SW (power) "Switch Node Connection to Inductor. This pin connects to the drains of the internal main and synchronous power MOSFET switches.", 5 RUN (in) "Run Control Input. Forcing this pin above 1.5V enables the part. Forcing this pin below 0.3V shuts down the device. In shutdown, all functions are disabled drawing <1uA supply current. Do not leave RUN floating.", 6 REF (in) "External Reference Input. Controls the output voltage to 3x the applied voltage at REF. Also turns on the bypass MOSFET when VREF > 1.2V.", 7 VIN (power) "Main Supply Pin. Must be closely decoupled to GND, Pin 3, with a 10uF or greater ceramic capacitor.", 8 VOUT (in) "Output Voltage Feedback Pin. An internal resistive divider divides the output voltage down by 3 for comparison to the external reference voltage. The drain of the P-channel bypass MOSFET is connected to this pin.", 9 EP (power) "Connect to GND, Pin 3."

## LTC3408EDD#TRPBF
designator U?
1.5 MHz, 600 mA Synchronous Step-Down Regulator with Bypass Transistor, 8-pin SON (DD-8), -40 to 85 degC, Pb-Free, Tape and Reel; Manufacturer: Linear Technology; PartNumber: LTC3408EDD#TRPBF; Number of Outputs: 1; PackageReference: DD-8; PackageDescription: 8-Pin Plastic DFN, Body 3 x 3 mm, Pitch 0.5 mm; Supplier 1: Digi-Key; Supplier Part Number 1: LTC3408EDD#TRPBF-ND; RoHS: TRUE; Code_JEDEC: MO-229
footprint LT-DD-8_V (SON, 8-Leads, Body 3x3mm, Pitch 0.5mm, Thermal Pad 1.65x2.38 mm)
pins: 1 VOUT (in) "Output Voltage Feedback Pin. An internal resistive divider divides the output voltage down by 3 for comparison to the external reference voltage. The drain of the P-channel bypass MOSFET is connected to this pin.", 2 VIN (power) "Main Supply Pin. Must be closely decoupled to GND, Pin 3, with a 10uF or greater ceramic capacitor.", 3 GND (power) "Ground Pin.", 4 SW (power) "Switch Node Connection to Inductor. This pin connects to the drains of the internal main and synchronous power MOSFET switches.", 5 RUN (in) "Run Control Input. Forcing this pin above 1.5V enables the part. Forcing this pin below 0.3V shuts down the device. In shutdown, all functions are disabled drawing <1uA supply current. Do not leave RUN floating.", 6 REF (in) "External Reference Input. Controls the output voltage to 3x the applied voltage at REF. Also turns on the bypass MOSFET when VREF > 1.2V.", 7 VIN (power) "Main Supply Pin. Must be closely decoupled to GND, Pin 3, with a 10uF or greater ceramic capacitor.", 8 VOUT (in) "Output Voltage Feedback Pin. An internal resistive divider divides the output voltage down by 3 for comparison to the external reference voltage. The drain of the P-channel bypass MOSFET is connected to this pin.", 9 EP (power) "Connect to GND, Pin 3."

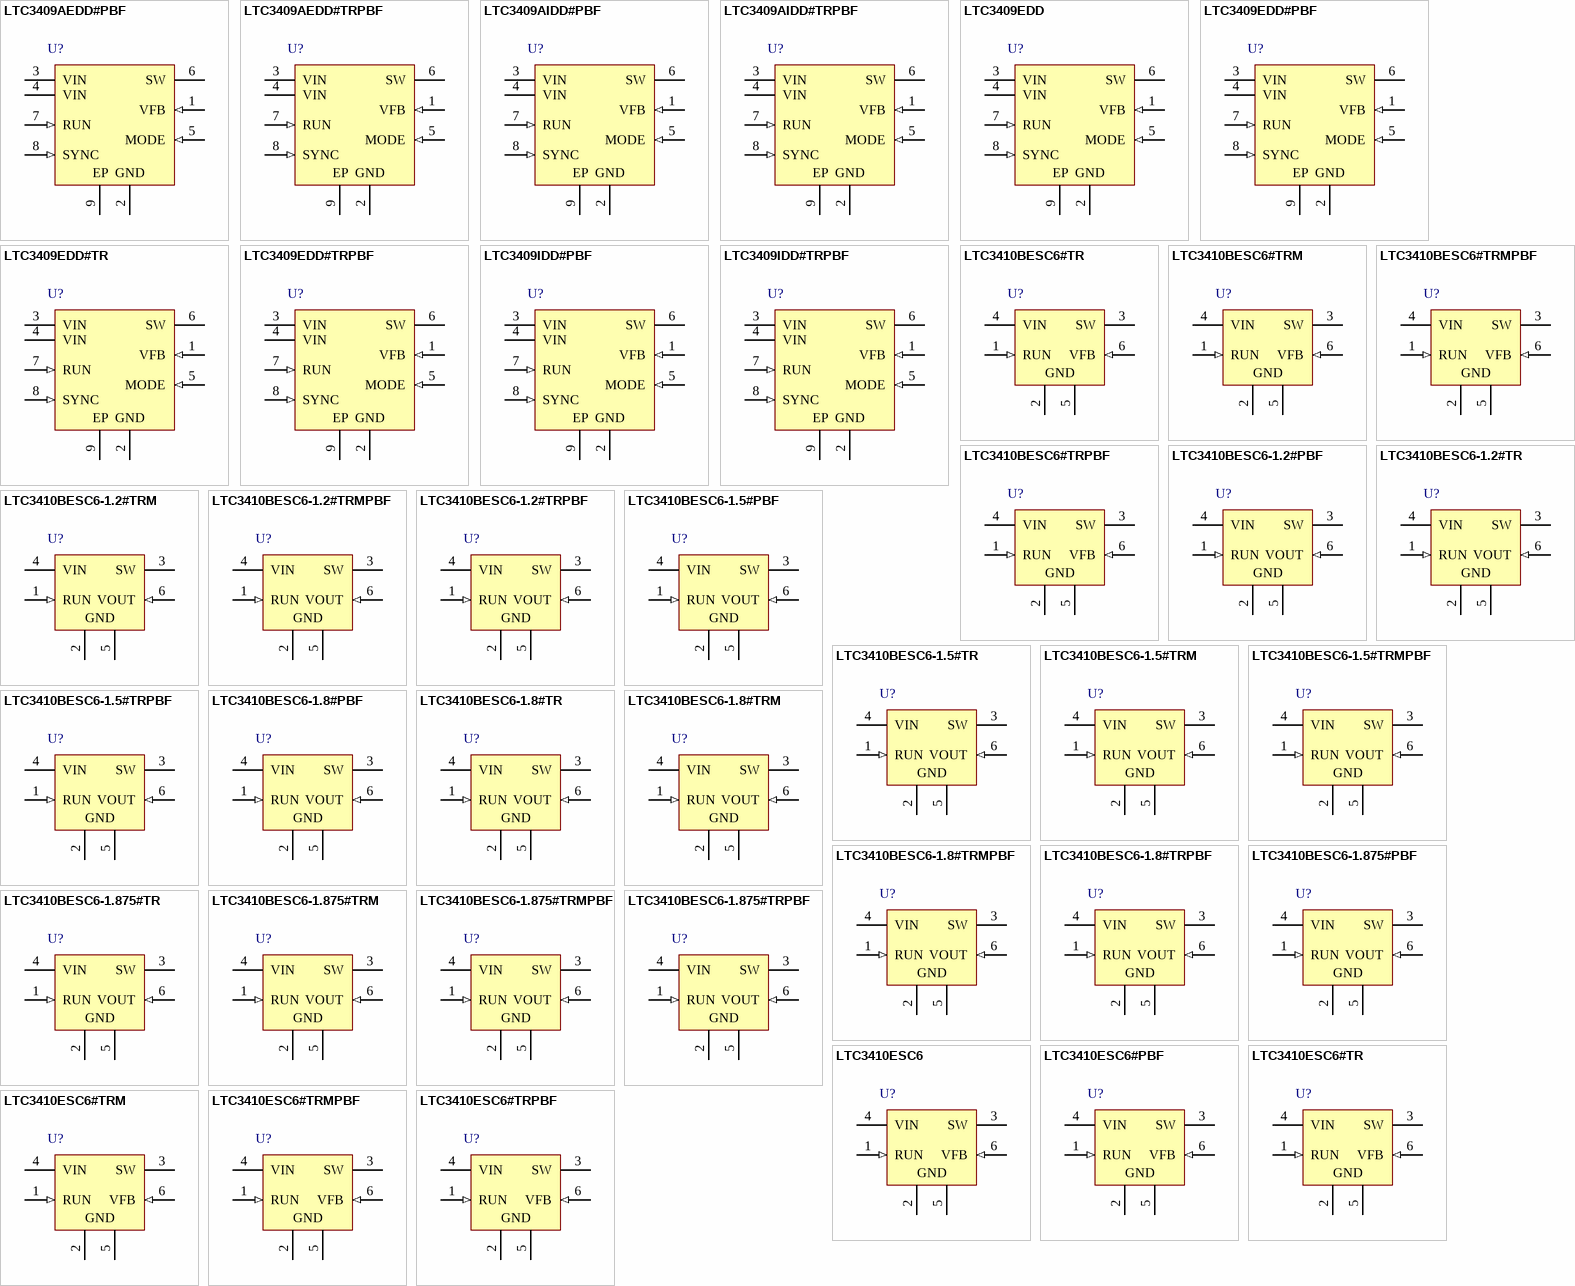
[diagram p20: symbols LTC3409AEDD#PBF to LTC3410ESC6#TRPBF]

## LTC3409AEDD#PBF
designator U?
600 mA Low Buck Regulator, 1.6 to 5.5 V Vin, 8-pin SON (DD-8), -40 to 85 degC, Pb-Free; Manufacturer: Linear Technology; PartNumber: LTC3409AEDD#PBF; Number of Outputs: 1; PackageReference: DD-8; PackageDescription: 8-Pin Plastic DFN, Body 3 x 3 mm, Pitch 0.5 mm; Supplier 1: Digi-Key; Supplier Part Number 1: LTC3409AEDD#PBF-ND; RoHS: TRUE; Code_JEDEC: MO-229
footprint LT-DD-8_V (SON, 8-Leads, Body 3x3mm, Pitch 0.5mm, Thermal Pad 1.65x2.38 mm)
pins: 1 VFB (in) "Feedback Pin. Receives the feedback voltage from an external resistive divider across the output.", 2 GND (power) "Ground Pin.", 3 VIN (power) "Main Supply Pins. Must be closely decoupled to GND, Pin 2 and Pin 9, with a 4.7uF or greater ceramic capacitor.", 4 VIN (power) "Main Supply Pins. Must be closely decoupled to GND, Pin 2 and Pin 9, with a 4.7uF or greater ceramic capacitor.", 5 MODE (in) "Mode Select Input. To select pulse skipping mode, force this pin above 1.1V. Forcing this pin below 0.3V selects Burst Mode operation. Do not leave MODE floating.", 6 SW (power) "Switch Node Connection to Inductor. This pin connects to the drains of the internal main and synchronous power MOSFET switches.", 7 RUN (in) "Run Control Input. Forcing this pin above 1.1V enables the part. Forcing this pin below 0.3V shuts down the device. In shutdown, all functions are disabled drawing <1uA supply current. Do not leave RUN floating.", 8 SYNC (in) "External CLK Input/Fixed Switching Frequency Selection. Forcing this pin above 1.1V for greater than 30us selects 2.6MHz switching frequency. Forcing this pin below 0.3V for greater than 30us selects 1.7MHz switching (See Datasheet)", 9 EP (power) "The Exposed Pad is ground. It must be soldered to PCB ground to provide both electrical contact and optimum thermal performance."

## LTC3409AEDD#TRPBF
designator U?
600 mA Low Buck Regulator, 1.6 to 5.5 V Vin, 8-pin SON (DD-8), -40 to 85 degC, Pb-Free, Tape and Reel; Manufacturer: Linear Technology; PartNumber: LTC3409AEDD#TRPBF; Number of Outputs: 1; PackageReference: DD-8; PackageDescription: 8-Pin Plastic DFN, Body 3 x 3 mm, Pitch 0.5 mm; Supplier 1: Digi-Key; Supplier Part Number 1: LTC3409AEDD#TRPBF-ND; RoHS: TRUE; Code_JEDEC: MO-229
footprint LT-DD-8_V (SON, 8-Leads, Body 3x3mm, Pitch 0.5mm, Thermal Pad 1.65x2.38 mm)
pins: 1 VFB (in) "Feedback Pin. Receives the feedback voltage from an external resistive divider across the output.", 2 GND (power) "Ground Pin.", 3 VIN (power) "Main Supply Pins. Must be closely decoupled to GND, Pin 2 and Pin 9, with a 4.7uF or greater ceramic capacitor.", 4 VIN (power) "Main Supply Pins. Must be closely decoupled to GND, Pin 2 and Pin 9, with a 4.7uF or greater ceramic capacitor.", 5 MODE (in) "Mode Select Input. To select pulse skipping mode, force this pin above 1.1V. Forcing this pin below 0.3V selects Burst Mode operation. Do not leave MODE floating.", 6 SW (power) "Switch Node Connection to Inductor. This pin connects to the drains of the internal main and synchronous power MOSFET switches.", 7 RUN (in) "Run Control Input. Forcing this pin above 1.1V enables the part. Forcing this pin below 0.3V shuts down the device. In shutdown, all functions are disabled drawing <1uA supply current. Do not leave RUN floating.", 8 SYNC (in) "External CLK Input/Fixed Switching Frequency Selection. Forcing this pin above 1.1V for greater than 30us selects 2.6MHz switching frequency. Forcing this pin below 0.3V for greater than 30us selects 1.7MHz switching (See Datasheet)", 9 EP (power) "The Exposed Pad is ground. It must be soldered to PCB ground to provide both electrical contact and optimum thermal performance."

## LTC3409AIDD#PBF
designator U?
600 mA Low Buck Regulator, 1.6 to 5.5 V Vin, 8-pin SON (DD-8), -40 to 85 degC, Pb-Free; Manufacturer: Linear Technology; PartNumber: LTC3409AIDD#PBF; Number of Outputs: 1; PackageReference: DD-8; PackageDescription: 8-Pin Plastic DFN, Body 3 x 3 mm, Pitch 0.5 mm; Supplier 1: Digi-Key; Supplier Part Number 1: LTC3409AIDD#PBF-ND; RoHS: TRUE; Code_JEDEC: MO-229
footprint LT-DD-8_V (SON, 8-Leads, Body 3x3mm, Pitch 0.5mm, Thermal Pad 1.65x2.38 mm)
pins: 1 VFB (in) "Feedback Pin. Receives the feedback voltage from an external resistive divider across the output.", 2 GND (power) "Ground Pin.", 3 VIN (power) "Main Supply Pins. Must be closely decoupled to GND, Pin 2 and Pin 9, with a 4.7uF or greater ceramic capacitor.", 4 VIN (power) "Main Supply Pins. Must be closely decoupled to GND, Pin 2 and Pin 9, with a 4.7uF or greater ceramic capacitor.", 5 MODE (in) "Mode Select Input. To select pulse skipping mode, force this pin above 1.1V. Forcing this pin below 0.3V selects Burst Mode operation. Do not leave MODE floating.", 6 SW (power) "Switch Node Connection to Inductor. This pin connects to the drains of the internal main and synchronous power MOSFET switches.", 7 RUN (in) "Run Control Input. Forcing this pin above 1.1V enables the part. Forcing this pin below 0.3V shuts down the device. In shutdown, all functions are disabled drawing <1uA supply current. Do not leave RUN floating.", 8 SYNC (in) "External CLK Input/Fixed Switching Frequency Selection. Forcing this pin above 1.1V for greater than 30us selects 2.6MHz switching frequency. Forcing this pin below 0.3V for greater than 30us selects 1.7MHz switching (See Datasheet)", 9 EP (power) "The Exposed Pad is ground. It must be soldered to PCB ground to provide both electrical contact and optimum thermal performance."